# Altium schematic symbol library m2.SchLib: 1 symbol
Pins are listed as number, name and electrical type; pins without a type are passive.

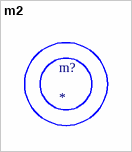
[diagram p0: symbol m2]

## m2
designator m?
footprint m2